# EAGLE library part ATMEGA328P (library Diplomarbeit)
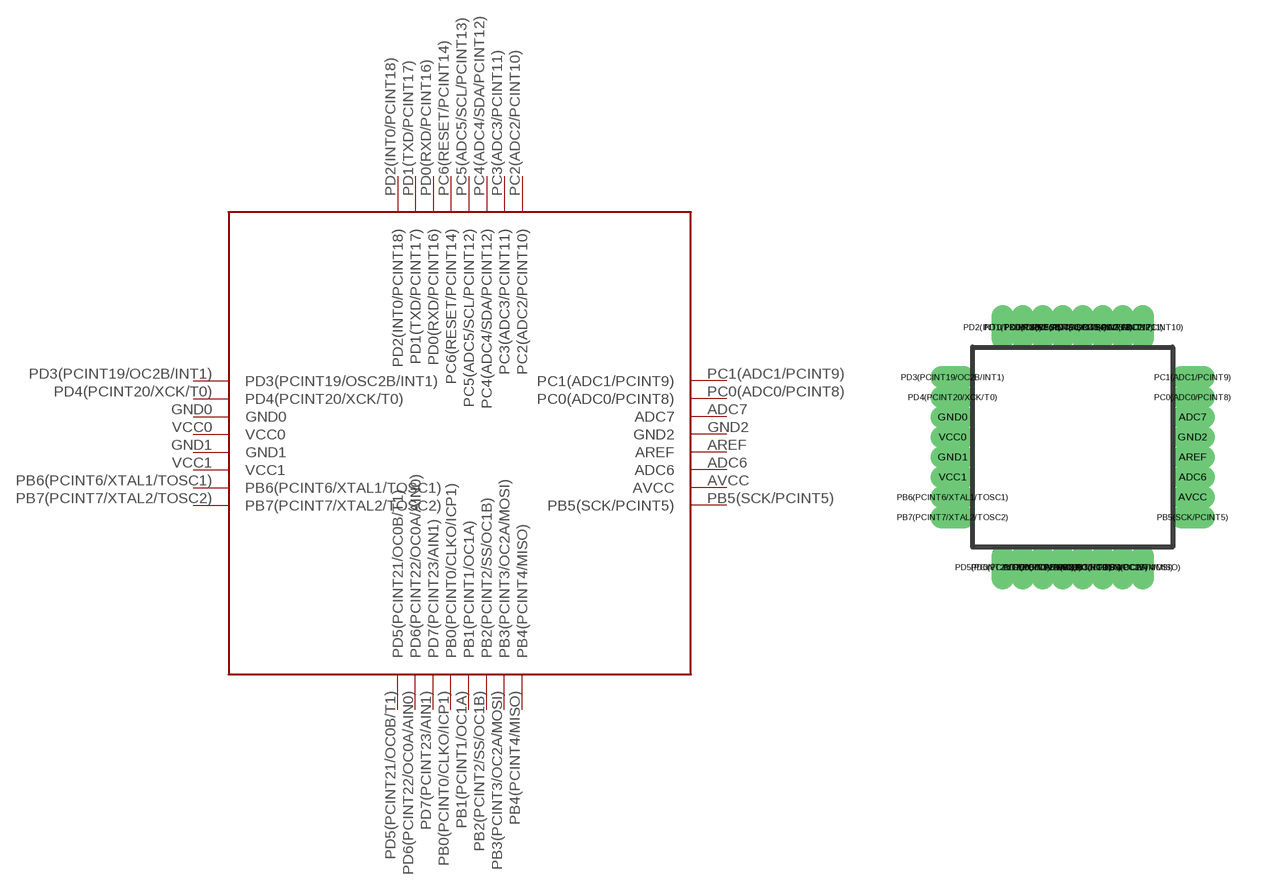
[diagram p4: symbol with the pads of ATMEGA328P; footprint ATMEGA328P]

Designator prefix -

## ATMEGA328P  [ATMEGA328P]
ADC6  ADC6
ADC7  ADC7
AREF  AREF
AVCC  AVCC
GND0  GND0
GND1  GND1
GND2  GND2
PB0(PCINT0/CLKO/ICP1)  PB0(PCINT0/CLKO/ICP1)
PB1(PCINT1/OC1A)  PB1(PCINT1/OC1A)
PB2(PCINT2/SS/OC1B)  PB2(PCINT2/SS/OC1B)
PB3(PCINT3/OC2A/MOSI)  PB3(PCINT3/OC2A/MOSI)
PB4(PCINT4/MISO)  PB4(PCINT4/MISO)
PB5(SCK/PCINT5)  PB5(SCK/PCINT5)
PB6(PCINT6/XTAL1/TOSC1)  PB6(PCINT6/XTAL1/TOSC1)
PB7(PCINT7/XTAL2/TOSC2)  PB7(PCINT7/XTAL2/TOSC2)
PC0(ADC0/PCINT8)  PC0(ADC0/PCINT8)
PC1(ADC1/PCINT9)  PC1(ADC1/PCINT9)
PC2(ADC2/PCINT10)  PC2(ADC2/PCINT10)
PC3(ADC3/PCINT11)  PC3(ADC3/PCINT11)
PC4(ADC4/SDA/PCINT12)  PC4(ADC4/SDA/PCINT12)
PC5(ADC5/SCL/PCINT13)  PC5(ADC5/SCL/PCINT12)
PC6(RESET/PCINT14)  PC6(RESET/PCINT14)
PD0(RXD/PCINT16)  PD0(RXD/PCINT16)
PD1(TXD/PCINT17)  PD1(TXD/PCINT17)
PD2(INT0/PCINT18)  PD2(INT0/PCINT18)
PD3(PCINT19/OC2B/INT1)  PD3(PCINT19/OSC2B/INT1)
PD4(PCINT20/XCK/T0)  PD4(PCINT20/XCK/T0)
PD5(PCINT21/OC0B/T1)  PD5(PCINT21/OC0B/T1)
PD6(PCINT22/OC0A/AIN0)  PD6(PCINT22/OC0A/AIN0)
PD7(PCINT23/AIN1)  PD7(PCINT23/AIN1)
VCC0  VCC0
VCC1  VCC1

## Footprint ATMEGA328P (pad centres in mm)
drill 0.05 pad 0.23 long: ADC6 3,-0.75; ADC7 3,0.75; AREF 3,-0.25; AVCC 3,-1.25; GND0 -3,0.75; GND1 -3,-0.25; GND2 3,0.25; PB0(PCINT0/CLKO/ICP1) -0.25,-3; PB1(PCINT1/OC1A) 0.25,-3; PB2(PCINT2/SS/OC1B) 0.75,-3; PB3(PCINT3/OC2A/MOSI) 1.25,-3; PB4(PCINT4/MISO) 1.75,-3; PB5(SCK/PCINT5) 3,-1.75; PB6(PCINT6/XTAL1/TOSC1) -3,-1.25; PB7(PCINT7/XTAL2/TOSC2) -3,-1.75; PC0(ADC0/PCINT8) 3,1.25; PC1(ADC1/PCINT9) 3,1.75; PC2(ADC2/PCINT10) 1.75,3; PC3(ADC3/PCINT11) 1.25,3; PC4(ADC4/SDA/PCINT12) 0.75,3; PC5(ADC5/SCL/PCINT13) 0.25,3; PC6(RESET/PCINT14) -0.25,3; PD0(RXD/PCINT16) -0.75,3; PD1(TXD/PCINT17) -1.25,3; PD2(INT0/PCINT18) -1.75,3; PD3(PCINT19/OC2B/INT1) -3,1.75; PD4(PCINT20/XCK/T0) -3,1.25; PD5(PCINT21/OC0B/T1) -1.75,-3; PD6(PCINT22/OC0A/AIN0) -1.25,-3; PD7(PCINT23/AIN1) -0.75,-3; VCC0 -3,0.25; VCC1 -3,-0.75